# Altium footprint library wirepad.PCBLIB: 18 footprints (part 2 of 2)
Each footprint in its own frame and in the unit in brackets; x right, y up, seen from the top. Pads: shape width x height; smd on the part's side, far side on the other; paste and mask are expansions set on the pad; w line width, h text height; cw(c..) or ccw(c..) is an arc to the next point about the centre after c.
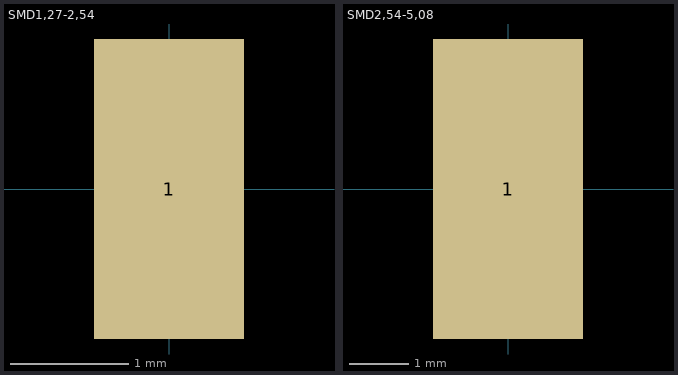
[diagram p1: the footprints below, top view; thin cyan lines are the x and y axes]

## SMD1,27-2,54 [mil]
pads (1):
  rect 50x100 smd: 1(0,0)

## SMD2,54-5,08 [mil]
pads (1):
  rect 100x200 smd: 1(0,0)